# Altium schematic symbol library CP.SchLib: 1 symbol
Pins are listed as number, name and electrical type; pins without a type are passive.

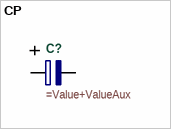
[diagram p0: symbol CP]

## CP
designator C?
pins: M, P
text: +